# EAGLE library part DIL14/8 (library ic-package_modified)
Dual In Line
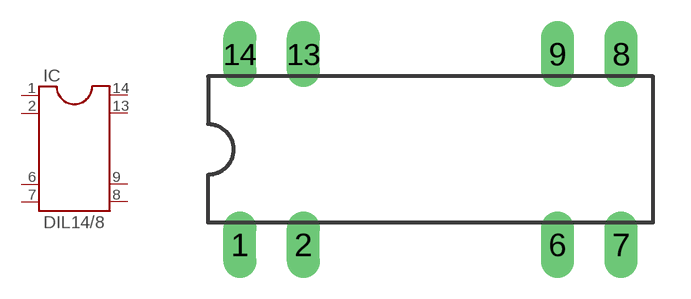
[diagram p14: symbol with the pads of DIL14/8; footprint DIL14/8]

Designator prefix IC

## DIL14/8  [DIL14/8]
1  1  pas
2  2  pas
6  6  pas
7  7  pas
8  8  pas
9  9  pas
13  13  pas
14  14  pas

## Footprint DIL14/8 (pad centres in mm)
Dual In Line Package
drill 0.813 long: 1 -7.62,-3.81; 2 -5.08,-3.81; 6 5.08,-3.81; 7 7.62,-3.81; 8 7.62,3.81; 9 5.08,3.81; 13 -5.08,3.81; 14 -7.62,3.81